# EAGLE library part L9110 (library L9110h)
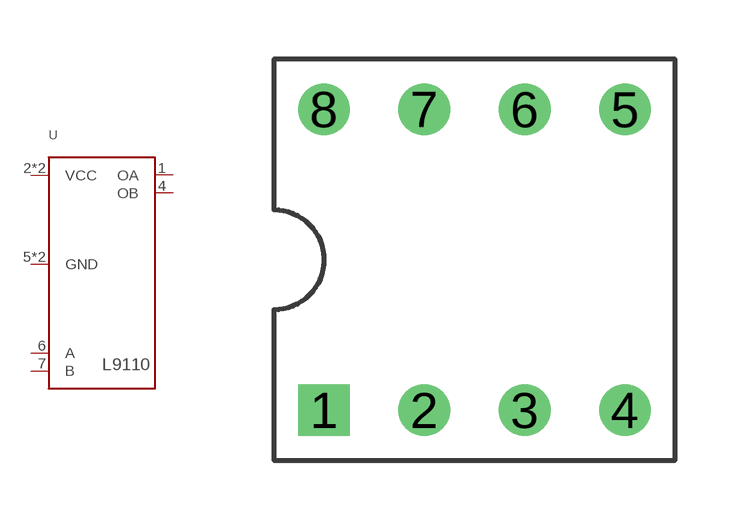
[diagram p0: symbol with the pads of DIP8; footprint DIP8]

Designator prefix -

## L9110  [DIP8]
1  OA
2  VCC
3  VCC
4  OB
5  GND
6  A
7  B
8  GND

## Footprint DIP8 (pad centres in mm)
drill 0.8 square: 1 -3.81,-3.81
drill 0.8: 2 -1.27,-3.81; 3 1.27,-3.81; 4 3.81,-3.81; 5 3.81,3.81; 6 1.27,3.81; 7 -1.27,3.81; 8 -3.81,3.81